# Altium footprint library h_bridge.PcbLib: 3 footprints
Each footprint in its own frame and in the unit in brackets; x right, y up, seen from the top. Pads: shape width x height; smd on the part's side, far side on the other; paste and mask are expansions set on the pad; w line width, h text height; cw(c..) or ccw(c..) is an arc to the next point about the centre after c.
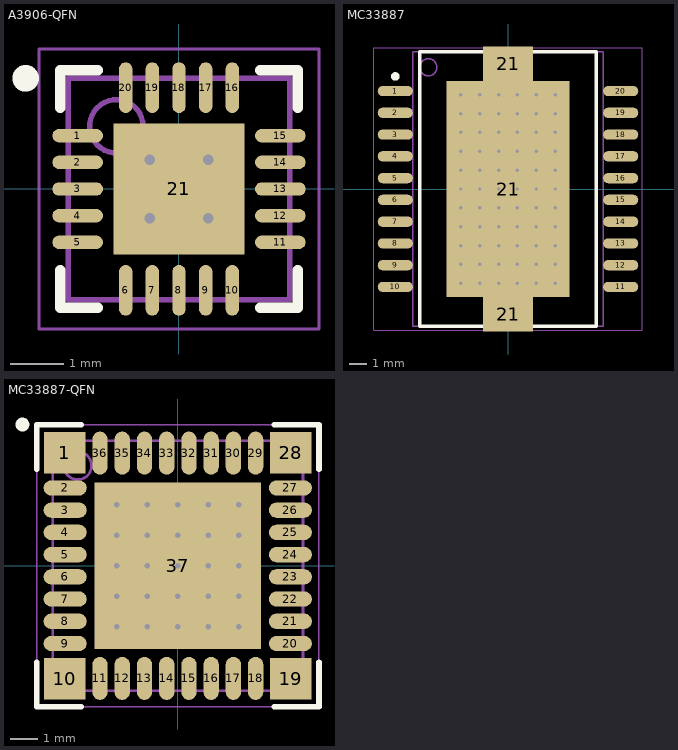
[diagram p0: the footprints below, top view; thin cyan lines are the x and y axes]

## A3906-QFN [mm]
height 0.8
pads (21):
  oval 0.95x0.25 smd: 1(-1.9,1) 2(-1.9,0.5) 3(-1.9,0) 4(-1.9,-0.5) 5(-1.9,-1) 11(1.9,-1) 12(1.9,-0.5) 13(1.9,0) 14(1.9,0.5) 15(1.9,1)
  oval 0.25x0.95 smd: 6(-1,-1.9) 7(-0.5,-1.9) 8(0,-1.9) 9(0.5,-1.9) 10(1,-1.9) 16(1,1.9) 17(0.5,1.9) 18(0,1.9) 19(-0.5,1.9) 20(-1,1.9)
  rect 2.45x2.45 smd: 21(0,0)
via 0.55,-0.55 diameter 0.5 hole 0.2
via -0.55,-0.55 diameter 0.5 hole 0.2
via 0.55,0.55 diameter 0.5 hole 0.2
via -0.55,0.55 diameter 0.5 hole 0.2
Top Overlay:
  circle w0.25: c-2.875,2.075 r0.125
  lines w0.2: -2.225,-1.525 -2.225,-2.225 -1.525,-2.225 ; -2.225,1.525 -2.225,2.225 -1.525,2.225 ; 1.525,-2.225 2.225,-2.225 2.225,-1.525 ; 1.525,2.225 2.225,2.225 2.225,1.525
Mechanical 13:
  circle w0.1: c-1.175,1.175 r0.5
  lines w0.1: -2.075,-2.075 2.075,-2.075 2.075,2.075 -2.075,2.075 -2.075,-2.075
Mechanical 15:
  lines w0.05: -2.625,-2.625 2.625,-2.625 2.625,2.625 -2.625,2.625 -2.625,-2.625
  lines w0.1: -0.5,0 0.5,0 ; 0,-0.5 0,0.5
3D body: height 0.8, standoff 0, extent -2.075,-2.075 2.075,2.075

## MC33887 [mm] "SOP, 20-Leads, Body 15.90x11.00mm, Pitch 1.27mm, Thermal Pad 12.60x7.20mm, IPC Medium Density"
height 3.4
pads (23):
  oval 2.05x0.6 smd: 1(-6.575,5.715) 2(-6.575,4.445) 3(-6.575,3.175) 4(-6.575,1.905) 5(-6.575,0.635) 6(-6.575,-0.635) 7(-6.575,-1.905) 8(-6.575,-3.175) 9(-6.575,-4.445) 10(-6.575,-5.715) 11(6.575,-5.715) 12(6.575,-4.445) 13(6.575,-3.175) 14(6.575,-1.905) 15(6.575,-0.635) 16(6.575,0.635) 17(6.575,1.905) 18(6.575,3.175) 19(6.575,4.445) 20(6.575,5.715)
  rect 2.9x2 smd: 21(0,-7.3) 21(0,7.3)
  rect 7.2x12.6 smd: 21(0,0)
via 2.75,-5.5 diameter 0.5 hole 0.2
via 1.65,-5.5 diameter 0.5 hole 0.2
via 0.55,-5.5 diameter 0.5 hole 0.2
via -0.55,-5.5 diameter 0.5 hole 0.2
via -1.65,-5.5 diameter 0.5 hole 0.2
via -2.75,-5.5 diameter 0.5 hole 0.2
via 2.75,-4.4 diameter 0.5 hole 0.2
via 1.65,-4.4 diameter 0.5 hole 0.2
via 0.55,-4.4 diameter 0.5 hole 0.2
via -0.55,-4.4 diameter 0.5 hole 0.2
via -1.65,-4.4 diameter 0.5 hole 0.2
via -2.75,-4.4 diameter 0.5 hole 0.2
via 2.75,-3.3 diameter 0.5 hole 0.2
via 1.65,-3.3 diameter 0.5 hole 0.2
via 0.55,-3.3 diameter 0.5 hole 0.2
via -0.55,-3.3 diameter 0.5 hole 0.2
via -1.65,-3.3 diameter 0.5 hole 0.2
via -2.75,-3.3 diameter 0.5 hole 0.2
via 2.75,-2.2 diameter 0.5 hole 0.2
via 1.65,-2.2 diameter 0.5 hole 0.2
via 0.55,-2.2 diameter 0.5 hole 0.2
via -0.55,-2.2 diameter 0.5 hole 0.2
via -1.65,-2.2 diameter 0.5 hole 0.2
via -2.75,-2.2 diameter 0.5 hole 0.2
via 2.75,-1.1 diameter 0.5 hole 0.2
via 1.65,-1.1 diameter 0.5 hole 0.2
via 0.55,-1.1 diameter 0.5 hole 0.2
via -0.55,-1.1 diameter 0.5 hole 0.2
via -1.65,-1.1 diameter 0.5 hole 0.2
via -2.75,-1.1 diameter 0.5 hole 0.2
via 2.75,0 diameter 0.5 hole 0.2
via 1.65,0 diameter 0.5 hole 0.2
via 0.55,0 diameter 0.5 hole 0.2
via -0.55,0 diameter 0.5 hole 0.2
via -1.65,0 diameter 0.5 hole 0.2
via -2.75,0 diameter 0.5 hole 0.2
via 2.75,1.1 diameter 0.5 hole 0.2
via 1.65,1.1 diameter 0.5 hole 0.2
via 0.55,1.1 diameter 0.5 hole 0.2
via -0.55,1.1 diameter 0.5 hole 0.2
via -1.65,1.1 diameter 0.5 hole 0.2
via -2.75,1.1 diameter 0.5 hole 0.2
via 2.75,2.2 diameter 0.5 hole 0.2
via 1.65,2.2 diameter 0.5 hole 0.2
via 0.55,2.2 diameter 0.5 hole 0.2
via -0.55,2.2 diameter 0.5 hole 0.2
via -1.65,2.2 diameter 0.5 hole 0.2
via -2.75,2.2 diameter 0.5 hole 0.2
via 2.75,3.3 diameter 0.5 hole 0.2
via 1.65,3.3 diameter 0.5 hole 0.2
via 0.55,3.3 diameter 0.5 hole 0.2
via -0.55,3.3 diameter 0.5 hole 0.2
via -1.65,3.3 diameter 0.5 hole 0.2
via -2.75,3.3 diameter 0.5 hole 0.2
via 2.75,4.4 diameter 0.5 hole 0.2
via 1.65,4.4 diameter 0.5 hole 0.2
via 0.55,4.4 diameter 0.5 hole 0.2
via -0.55,4.4 diameter 0.5 hole 0.2
via -1.65,4.4 diameter 0.5 hole 0.2
via -2.75,4.4 diameter 0.5 hole 0.2
via 2.75,5.5 diameter 0.5 hole 0.2
via 1.65,5.5 diameter 0.5 hole 0.2
via 0.55,5.5 diameter 0.5 hole 0.2
via -0.55,5.5 diameter 0.5 hole 0.2
via -1.65,5.5 diameter 0.5 hole 0.2
via -2.75,5.5 diameter 0.5 hole 0.2
Top Overlay:
  circle w0.25: c-6.575,6.565 r0.125
  lines w0.2: -5.15,-8 5.15,-8 5.15,8 -5.15,8 -5.15,-8
Mechanical 13:
  circle w0.1: c-4.65,7.1 r0.5
  lines w0.1: -5.55,-8 5.55,-8 5.55,8 -5.55,8 -5.55,-8
Mechanical 15:
  lines w0.05: -7.825,-8.25 7.825,-8.25 7.825,8.25 -7.825,8.25 -7.825,-8.25
  lines w0.1: -0.5,0 0.5,0 ; 0,-0.5 0,0.5
3D body: height 3.4, standoff 0.1, extent -5.55,-8 5.55,8

## MC33887-QFN [mm] "QFN, 32-Leads, Body 9.00x9.00mm, Pitch 0.80mm, Thermal Pad 6.00x6.00mm, IPC Medium Density"
height 2.1
pads (37):
  rect 1.5x1.5 smd: 1(-4.064,4.064) 10(-4.064,-4.064) 19(4.064,-4.064) 28(4.064,4.064)
  oval 1.55x0.55 smd: 2(-4.05,2.8) 3(-4.05,2) 4(-4.05,1.2) 5(-4.05,0.4) 6(-4.05,-0.4) 7(-4.05,-1.2) 8(-4.05,-2) 9(-4.05,-2.8) 20(4.05,-2.8) 21(4.05,-2) 22(4.05,-1.2) 23(4.05,-0.4) 24(4.05,0.4) 25(4.05,1.2) 26(4.05,2) 27(4.05,2.8)
  oval 0.55x1.55 smd: 11(-2.8,-4.05) 12(-2,-4.05) 13(-1.2,-4.05) 14(-0.4,-4.05) 15(0.4,-4.05) 16(1.2,-4.05) 17(2,-4.05) 18(2.8,-4.05) 29(2.8,4.05) 30(2,4.05) 31(1.2,4.05) 32(0.4,4.05) 33(-0.4,4.05) 34(-1.2,4.05) 35(-2,4.05) 36(-2.8,4.05)
  rect 6x6 smd: 37(0,0)
via -2.2,2.2 diameter 0.5 hole 0.2
via -1.1,2.2 diameter 0.5 hole 0.2
via 0,2.2 diameter 0.5 hole 0.2
via 1.1,2.2 diameter 0.5 hole 0.2
via 2.2,2.2 diameter 0.5 hole 0.2
via -2.2,1.1 diameter 0.5 hole 0.2
via -1.1,1.1 diameter 0.5 hole 0.2
via 0,1.1 diameter 0.5 hole 0.2
via 1.1,1.1 diameter 0.5 hole 0.2
via 2.2,1.1 diameter 0.5 hole 0.2
via -2.2,0 diameter 0.5 hole 0.2
via -1.1,0 diameter 0.5 hole 0.2
via 0,0 diameter 0.5 hole 0.2
via 1.1,0 diameter 0.5 hole 0.2
via 2.2,0 diameter 0.5 hole 0.2
via -2.2,-1.1 diameter 0.5 hole 0.2
via -1.1,-1.1 diameter 0.5 hole 0.2
via 0,-1.1 diameter 0.5 hole 0.2
via 1.1,-1.1 diameter 0.5 hole 0.2
via 2.2,-1.1 diameter 0.5 hole 0.2
via -2.2,-2.2 diameter 0.5 hole 0.2
via -1.1,-2.2 diameter 0.5 hole 0.2
via 0,-2.2 diameter 0.5 hole 0.2
via 1.1,-2.2 diameter 0.5 hole 0.2
via 2.2,-2.2 diameter 0.5 hole 0.2
Top Overlay:
  circle w0.25: c-5.588,5.08 r0.125
  lines w0.2: -5.08,-3.475 -5.08,-5.08 -3.475,-5.08 ; -5.08,3.475 -5.08,5.08 -3.475,5.08 ; 3.475,-5.08 5.08,-5.08 5.08,-3.475 ; 3.475,5.08 5.08,5.08 5.08,3.475
Mechanical 13:
  circle w0.1: c-3.6,3.6 r0.5
  lines w0.1: -4.5,-4.5 -4.5,4.5 4.5,4.5 4.5,-4.5 -4.5,-4.5
Mechanical 15:
  lines w0.05: -5.075,-5.075 -5.075,5.075 5.075,5.075 5.075,-5.075 -5.075,-5.075
  lines w0.1: -0.5,0 0.5,0 ; 0,-0.5 0,0.5
3D body: height 2.1, standoff 0.01, extent -4.5,-4.5 4.5,4.5